# EAGLE library part PIC16F8* (library untitled)
MICROCONTROLLER 14-Pin, 8-Bit PIC16F8X Family - CMOS Flash Pin Compatible : 16F630, 16F676, 16F684, 16F688 Keywords: PIC16F630, PIC16F676, PIC16F684, PIC16F688
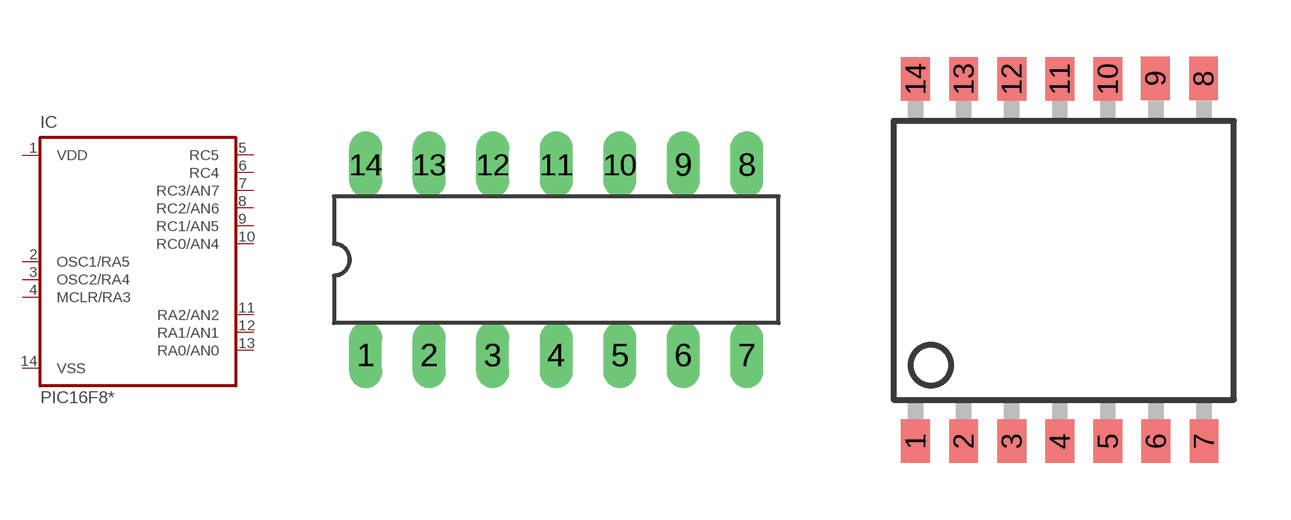
[diagram p0: symbol with the pads of DIL14; footprints DIL14, SO-14W]

Designator prefix IC

## PIC16F8DIL  [DIL14]
1  VDD  pwr
2  OSC1/RA5  in
3  OSC2/RA4  out
4  MCLR/RA3  in
5  RC5
6  RC4
7  RC3/AN7
8  RC2/AN6
9  RC1/AN5
10  RC0/AN4
11  RA2/AN2
12  RA1/AN1
13  RA0/AN0
14  VSS  pwr

## PIC16F8SO  [SO-14W]
Pads as for DIL14

## Footprint DIL14 (pad centres in mm)
Dual In Line package type P
drill 0.813 long: 1 -10.16,-3.81; 2 -7.62,-3.81; 3 -5.08,-3.81; 4 -2.54,-3.81; 5 0,-3.81; 6 2.54,-3.81; 7 5.08,-3.81; 8 5.08,3.81; 9 2.54,3.81; 10 0,3.81; 11 -2.54,3.81; 12 -5.08,3.81; 13 -7.62,3.81; 14 -10.16,3.81

## Footprint SO-14W (pad centres in mm)
Small Outline Wide Plastic Gull Wing 300-mil body, package type SO
smd 0.762 x 1.143: 1 -5.08,-4.788; 2 -3.81,-4.788; 3 -2.54,-4.788; 4 -1.27,-4.788; 5 0,-4.788; 6 1.27,-4.788; 7 2.54,-4.788; 8 2.527,4.801; 9 1.257,4.801; 10 0,4.788; 11 -1.27,4.788; 12 -2.54,4.788; 13 -3.81,4.788; 14 -5.08,4.788